# Altium schematic symbol library Resistors_CPF-0805.SchLib: 384 symbols (part 3 of 3)
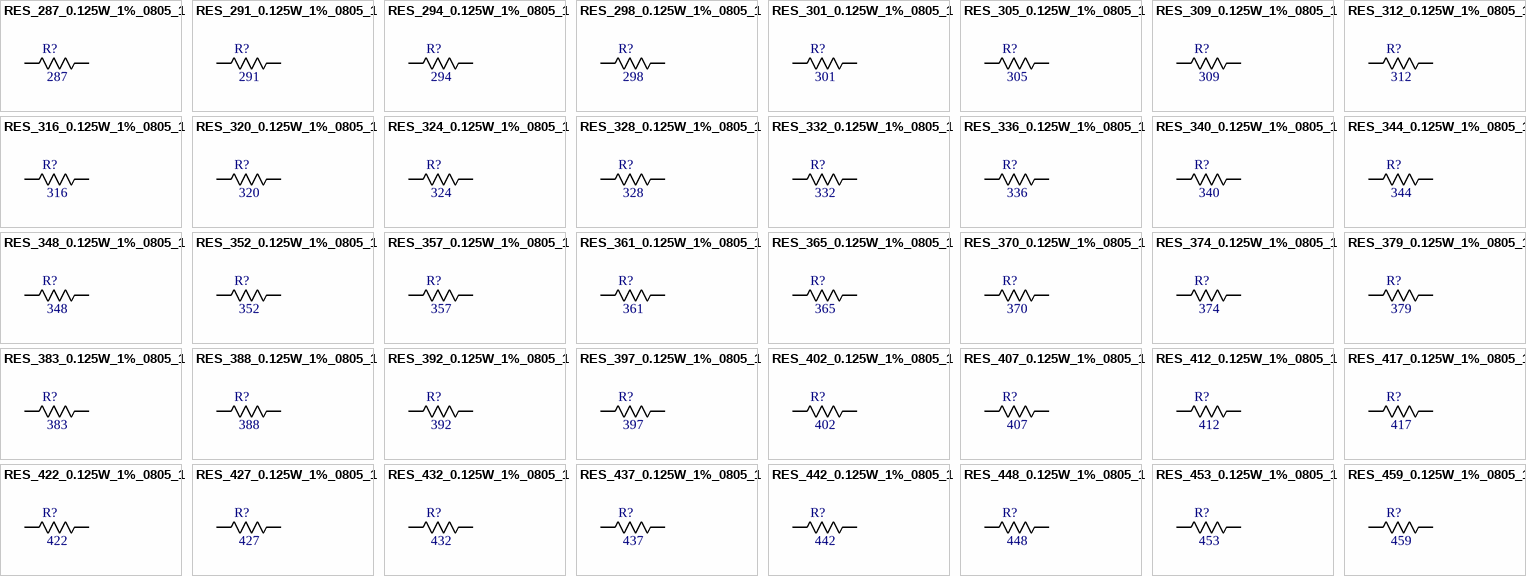
[diagram p11: symbols RES_287_0.125W_1%_0805_1 to RES_459_0.125W_1%_0805_1]

## RES_316_0.125W_1%_0805_1
designator R?, comment 316
Resistenza SMD TE Connectivity Film sottile; Manufacturer_Part_Number: CPF0805B100RE; Voltage[V]: 100; Tollerance[%]: 0.1; Serie: CPF; Codice RS: 666-2516; Vendor: TE Connectivity; Type: Resistors; Package: 0805; Power[W]: 0.1; Value[OHM ]: 100
footprint RES_0816_SUS(My_MAXI)
pins: 1, 2

## RES_320_0.125W_1%_0805_1
designator R?, comment 320
Resistenza SMD TE Connectivity Film sottile; Manufacturer_Part_Number: CPF0805B100RE; Voltage[V]: 100; Tollerance[%]: 0.1; Serie: CPF; Codice RS: 666-2516; Vendor: TE Connectivity; Type: Resistors; Package: 0805; Power[W]: 0.1; Value[OHM ]: 100
footprint RES_0816_SUS(My_MAXI)
pins: 1, 2

## RES_324_0.125W_1%_0805_1
designator R?, comment 324
Resistenza SMD TE Connectivity Film sottile; Manufacturer_Part_Number: CPF0805B100RE; Voltage[V]: 100; Tollerance[%]: 0.1; Serie: CPF; Codice RS: 666-2516; Vendor: TE Connectivity; Type: Resistors; Package: 0805; Power[W]: 0.1; Value[OHM ]: 100
footprint RES_0816_SUS(My_MAXI)
pins: 1, 2

## RES_328_0.125W_1%_0805_1
designator R?, comment 328
Resistenza SMD TE Connectivity Film sottile; Manufacturer_Part_Number: CPF0805B100RE; Voltage[V]: 100; Tollerance[%]: 0.1; Serie: CPF; Codice RS: 666-2516; Vendor: TE Connectivity; Type: Resistors; Package: 0805; Power[W]: 0.1; Value[OHM ]: 100
footprint RES_0816_SUS(My_MAXI)
pins: 1, 2

## RES_332_0.125W_1%_0805_1
designator R?, comment 332
Resistenza SMD TE Connectivity Film sottile; Manufacturer_Part_Number: CPF0805B100RE; Voltage[V]: 100; Tollerance[%]: 0.1; Serie: CPF; Codice RS: 666-2516; Vendor: TE Connectivity; Type: Resistors; Package: 0805; Power[W]: 0.1; Value[OHM ]: 100
footprint RES_0816_SUS(My_MAXI)
pins: 1, 2

## RES_336_0.125W_1%_0805_1
designator R?, comment 336
Resistenza SMD TE Connectivity Film sottile; Manufacturer_Part_Number: CPF0805B100RE; Voltage[V]: 100; Tollerance[%]: 0.1; Serie: CPF; Codice RS: 666-2516; Vendor: TE Connectivity; Type: Resistors; Package: 0805; Power[W]: 0.1; Value[OHM ]: 100
footprint RES_0816_SUS(My_MAXI)
pins: 1, 2

## RES_340_0.125W_1%_0805_1
designator R?, comment 340
Resistenza SMD TE Connectivity Film sottile; Manufacturer_Part_Number: CPF0805B100RE; Voltage[V]: 100; Tollerance[%]: 0.1; Serie: CPF; Codice RS: 666-2516; Vendor: TE Connectivity; Type: Resistors; Package: 0805; Power[W]: 0.1; Value[OHM ]: 100
footprint RES_0816_SUS(My_MAXI)
pins: 1, 2

## RES_344_0.125W_1%_0805_1
designator R?, comment 344
Resistenza SMD TE Connectivity Film sottile; Manufacturer_Part_Number: CPF0805B100RE; Voltage[V]: 100; Tollerance[%]: 0.1; Serie: CPF; Codice RS: 666-2516; Vendor: TE Connectivity; Type: Resistors; Package: 0805; Power[W]: 0.1; Value[OHM ]: 100
footprint RES_0816_SUS(My_MAXI)
pins: 1, 2

## RES_348_0.125W_1%_0805_1
designator R?, comment 348
Resistenza SMD TE Connectivity Film sottile; Manufacturer_Part_Number: CPF0805B100RE; Voltage[V]: 100; Tollerance[%]: 0.1; Serie: CPF; Codice RS: 666-2516; Vendor: TE Connectivity; Type: Resistors; Package: 0805; Power[W]: 0.1; Value[OHM ]: 100
footprint RES_0816_SUS(My_MAXI)
pins: 1, 2

## RES_352_0.125W_1%_0805_1
designator R?, comment 352
Resistenza SMD TE Connectivity Film sottile; Manufacturer_Part_Number: CPF0805B100RE; Voltage[V]: 100; Tollerance[%]: 0.1; Serie: CPF; Codice RS: 666-2516; Vendor: TE Connectivity; Type: Resistors; Package: 0805; Power[W]: 0.1; Value[OHM ]: 100
footprint RES_0816_SUS(My_MAXI)
pins: 1, 2

## RES_357_0.125W_1%_0805_1
designator R?, comment 357
Resistenza SMD TE Connectivity Film sottile; Manufacturer_Part_Number: CPF0805B100RE; Voltage[V]: 100; Tollerance[%]: 0.1; Serie: CPF; Codice RS: 666-2516; Vendor: TE Connectivity; Type: Resistors; Package: 0805; Power[W]: 0.1; Value[OHM ]: 100
footprint RES_0816_SUS(My_MAXI)
pins: 1, 2

## RES_361_0.125W_1%_0805_1
designator R?, comment 361
Resistenza SMD TE Connectivity Film sottile; Manufacturer_Part_Number: CPF0805B100RE; Voltage[V]: 100; Tollerance[%]: 0.1; Serie: CPF; Codice RS: 666-2516; Vendor: TE Connectivity; Type: Resistors; Package: 0805; Power[W]: 0.1; Value[OHM ]: 100
footprint RES_0816_SUS(My_MAXI)
pins: 1, 2

## RES_365_0.125W_1%_0805_1
designator R?, comment 365
Resistenza SMD TE Connectivity Film sottile; Manufacturer_Part_Number: CPF0805B100RE; Voltage[V]: 100; Tollerance[%]: 0.1; Serie: CPF; Codice RS: 666-2516; Vendor: TE Connectivity; Type: Resistors; Package: 0805; Power[W]: 0.1; Value[OHM ]: 100
footprint RES_0816_SUS(My_MAXI)
pins: 1, 2

## RES_370_0.125W_1%_0805_1
designator R?, comment 370
Resistenza SMD TE Connectivity Film sottile; Manufacturer_Part_Number: CPF0805B100RE; Voltage[V]: 100; Tollerance[%]: 0.1; Serie: CPF; Codice RS: 666-2516; Vendor: TE Connectivity; Type: Resistors; Package: 0805; Power[W]: 0.1; Value[OHM ]: 100
footprint RES_0816_SUS(My_MAXI)
pins: 1, 2

## RES_374_0.125W_1%_0805_1
designator R?, comment 374
Resistenza SMD TE Connectivity Film sottile; Manufacturer_Part_Number: CPF0805B100RE; Voltage[V]: 100; Tollerance[%]: 0.1; Serie: CPF; Codice RS: 666-2516; Vendor: TE Connectivity; Type: Resistors; Package: 0805; Power[W]: 0.1; Value[OHM ]: 100
footprint RES_0816_SUS(My_MAXI)
pins: 1, 2

## RES_379_0.125W_1%_0805_1
designator R?, comment 379
Resistenza SMD TE Connectivity Film sottile; Manufacturer_Part_Number: CPF0805B100RE; Voltage[V]: 100; Tollerance[%]: 0.1; Serie: CPF; Codice RS: 666-2516; Vendor: TE Connectivity; Type: Resistors; Package: 0805; Power[W]: 0.1; Value[OHM ]: 100
footprint RES_0816_SUS(My_MAXI)
pins: 1, 2

## RES_383_0.125W_1%_0805_1
designator R?, comment 383
Resistenza SMD TE Connectivity Film sottile; Manufacturer_Part_Number: CPF0805B100RE; Voltage[V]: 100; Tollerance[%]: 0.1; Serie: CPF; Codice RS: 666-2516; Vendor: TE Connectivity; Type: Resistors; Package: 0805; Power[W]: 0.1; Value[OHM ]: 100
footprint RES_0816_SUS(My_MAXI)
pins: 1, 2

## RES_388_0.125W_1%_0805_1
designator R?, comment 388
Resistenza SMD TE Connectivity Film sottile; Manufacturer_Part_Number: CPF0805B100RE; Voltage[V]: 100; Tollerance[%]: 0.1; Serie: CPF; Codice RS: 666-2516; Vendor: TE Connectivity; Type: Resistors; Package: 0805; Power[W]: 0.1; Value[OHM ]: 100
footprint RES_0816_SUS(My_MAXI)
pins: 1, 2

## RES_392_0.125W_1%_0805_1
designator R?, comment 392
Resistenza SMD TE Connectivity Film sottile; Manufacturer_Part_Number: CPF0805B100RE; Voltage[V]: 100; Tollerance[%]: 0.1; Serie: CPF; Codice RS: 666-2516; Vendor: TE Connectivity; Type: Resistors; Package: 0805; Power[W]: 0.1; Value[OHM ]: 100
footprint RES_0816_SUS(My_MAXI)
pins: 1, 2

## RES_397_0.125W_1%_0805_1
designator R?, comment 397
Resistenza SMD TE Connectivity Film sottile; Manufacturer_Part_Number: CPF0805B100RE; Voltage[V]: 100; Tollerance[%]: 0.1; Serie: CPF; Codice RS: 666-2516; Vendor: TE Connectivity; Type: Resistors; Package: 0805; Power[W]: 0.1; Value[OHM ]: 100
footprint RES_0816_SUS(My_MAXI)
pins: 1, 2

## RES_402_0.125W_1%_0805_1
designator R?, comment 402
Resistenza SMD TE Connectivity Film sottile; Manufacturer_Part_Number: CPF0805B100RE; Voltage[V]: 100; Tollerance[%]: 0.1; Serie: CPF; Codice RS: 666-2516; Vendor: TE Connectivity; Type: Resistors; Package: 0805; Power[W]: 0.1; Value[OHM ]: 100
footprint RES_0816_SUS(My_MAXI)
pins: 1, 2

## RES_407_0.125W_1%_0805_1
designator R?, comment 407
Resistenza SMD TE Connectivity Film sottile; Manufacturer_Part_Number: CPF0805B100RE; Voltage[V]: 100; Tollerance[%]: 0.1; Serie: CPF; Codice RS: 666-2516; Vendor: TE Connectivity; Type: Resistors; Package: 0805; Power[W]: 0.1; Value[OHM ]: 100
footprint RES_0816_SUS(My_MAXI)
pins: 1, 2

## RES_412_0.125W_1%_0805_1
designator R?, comment 412
Resistenza SMD TE Connectivity Film sottile; Manufacturer_Part_Number: CPF0805B100RE; Voltage[V]: 100; Tollerance[%]: 0.1; Serie: CPF; Codice RS: 666-2516; Vendor: TE Connectivity; Type: Resistors; Package: 0805; Power[W]: 0.1; Value[OHM ]: 100
footprint RES_0816_SUS(My_MAXI)
pins: 1, 2

## RES_417_0.125W_1%_0805_1
designator R?, comment 417
Resistenza SMD TE Connectivity Film sottile; Manufacturer_Part_Number: CPF0805B100RE; Voltage[V]: 100; Tollerance[%]: 0.1; Serie: CPF; Codice RS: 666-2516; Vendor: TE Connectivity; Type: Resistors; Package: 0805; Power[W]: 0.1; Value[OHM ]: 100
footprint RES_0816_SUS(My_MAXI)
pins: 1, 2

## RES_422_0.125W_1%_0805_1
designator R?, comment 422
Resistenza SMD TE Connectivity Film sottile; Manufacturer_Part_Number: CPF0805B100RE; Voltage[V]: 100; Tollerance[%]: 0.1; Serie: CPF; Codice RS: 666-2516; Vendor: TE Connectivity; Type: Resistors; Package: 0805; Power[W]: 0.1; Value[OHM ]: 100
footprint RES_0816_SUS(My_MAXI)
pins: 1, 2

## RES_427_0.125W_1%_0805_1
designator R?, comment 427
Resistenza SMD TE Connectivity Film sottile; Manufacturer_Part_Number: CPF0805B100RE; Voltage[V]: 100; Tollerance[%]: 0.1; Serie: CPF; Codice RS: 666-2516; Vendor: TE Connectivity; Type: Resistors; Package: 0805; Power[W]: 0.1; Value[OHM ]: 100
footprint RES_0816_SUS(My_MAXI)
pins: 1, 2

## RES_432_0.125W_1%_0805_1
designator R?, comment 432
Resistenza SMD TE Connectivity Film sottile; Manufacturer_Part_Number: CPF0805B100RE; Voltage[V]: 100; Tollerance[%]: 0.1; Serie: CPF; Codice RS: 666-2516; Vendor: TE Connectivity; Type: Resistors; Package: 0805; Power[W]: 0.1; Value[OHM ]: 100
footprint RES_0816_SUS(My_MAXI)
pins: 1, 2

## RES_437_0.125W_1%_0805_1
designator R?, comment 437
Resistenza SMD TE Connectivity Film sottile; Manufacturer_Part_Number: CPF0805B100RE; Voltage[V]: 100; Tollerance[%]: 0.1; Serie: CPF; Codice RS: 666-2516; Vendor: TE Connectivity; Type: Resistors; Package: 0805; Power[W]: 0.1; Value[OHM ]: 100
footprint RES_0816_SUS(My_MAXI)
pins: 1, 2

## RES_442_0.125W_1%_0805_1
designator R?, comment 442
Resistenza SMD TE Connectivity Film sottile; Manufacturer_Part_Number: CPF0805B100RE; Voltage[V]: 100; Tollerance[%]: 0.1; Serie: CPF; Codice RS: 666-2516; Vendor: TE Connectivity; Type: Resistors; Package: 0805; Power[W]: 0.1; Value[OHM ]: 100
footprint RES_0816_SUS(My_MAXI)
pins: 1, 2

## RES_448_0.125W_1%_0805_1
designator R?, comment 448
Resistenza SMD TE Connectivity Film sottile; Manufacturer_Part_Number: CPF0805B100RE; Voltage[V]: 100; Tollerance[%]: 0.1; Serie: CPF; Codice RS: 666-2516; Vendor: TE Connectivity; Type: Resistors; Package: 0805; Power[W]: 0.1; Value[OHM ]: 100
footprint RES_0816_SUS(My_MAXI)
pins: 1, 2

## RES_453_0.125W_1%_0805_1
designator R?, comment 453
Resistenza SMD TE Connectivity Film sottile; Manufacturer_Part_Number: CPF0805B100RE; Voltage[V]: 100; Tollerance[%]: 0.1; Serie: CPF; Codice RS: 666-2516; Vendor: TE Connectivity; Type: Resistors; Package: 0805; Power[W]: 0.1; Value[OHM ]: 100
footprint RES_0816_SUS(My_MAXI)
pins: 1, 2

## RES_459_0.125W_1%_0805_1
designator R?, comment 459
Resistenza SMD TE Connectivity Film sottile; Manufacturer_Part_Number: CPF0805B100RE; Voltage[V]: 100; Tollerance[%]: 0.1; Serie: CPF; Codice RS: 666-2516; Vendor: TE Connectivity; Type: Resistors; Package: 0805; Power[W]: 0.1; Value[OHM ]: 100
footprint RES_0816_SUS(My_MAXI)
pins: 1, 2

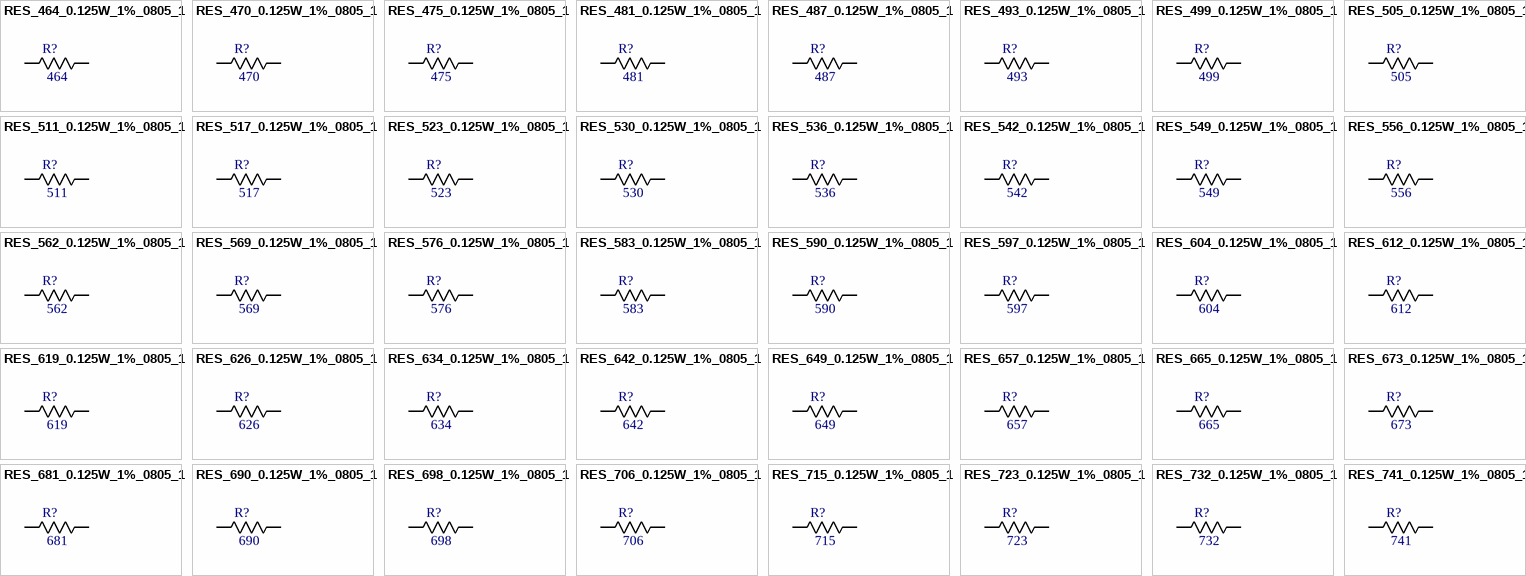
[diagram p8: symbols RES_464_0.125W_1%_0805_1 to RES_741_0.125W_1%_0805_1]

## RES_464_0.125W_1%_0805_1
designator R?, comment 464
Resistenza SMD TE Connectivity Film sottile; Manufacturer_Part_Number: CPF0805B100RE; Voltage[V]: 100; Tollerance[%]: 0.1; Serie: CPF; Codice RS: 666-2516; Vendor: TE Connectivity; Type: Resistors; Package: 0805; Power[W]: 0.1; Value[OHM ]: 100
footprint RES_0816_SUS(My_MAXI)
pins: 1, 2

## RES_470_0.125W_1%_0805_1
designator R?, comment 470
Resistenza SMD TE Connectivity Film sottile; Manufacturer_Part_Number: CPF0805B100RE; Voltage[V]: 100; Tollerance[%]: 0.1; Serie: CPF; Codice RS: 666-2516; Vendor: TE Connectivity; Type: Resistors; Package: 0805; Power[W]: 0.1; Value[OHM ]: 100
footprint RES_0816_SUS(My_MAXI)
pins: 1, 2

## RES_475_0.125W_1%_0805_1
designator R?, comment 475
Resistenza SMD TE Connectivity Film sottile; Manufacturer_Part_Number: CPF0805B100RE; Voltage[V]: 100; Tollerance[%]: 0.1; Serie: CPF; Codice RS: 666-2516; Vendor: TE Connectivity; Type: Resistors; Package: 0805; Power[W]: 0.1; Value[OHM ]: 100
footprint RES_0816_SUS(My_MAXI)
pins: 1, 2

## RES_481_0.125W_1%_0805_1
designator R?, comment 481
Resistenza SMD TE Connectivity Film sottile; Manufacturer_Part_Number: CPF0805B100RE; Voltage[V]: 100; Tollerance[%]: 0.1; Serie: CPF; Codice RS: 666-2516; Vendor: TE Connectivity; Type: Resistors; Package: 0805; Power[W]: 0.1; Value[OHM ]: 100
footprint RES_0816_SUS(My_MAXI)
pins: 1, 2

## RES_487_0.125W_1%_0805_1
designator R?, comment 487
Resistenza SMD TE Connectivity Film sottile; Manufacturer_Part_Number: CPF0805B100RE; Voltage[V]: 100; Tollerance[%]: 0.1; Serie: CPF; Codice RS: 666-2516; Vendor: TE Connectivity; Type: Resistors; Package: 0805; Power[W]: 0.1; Value[OHM ]: 100
footprint RES_0816_SUS(My_MAXI)
pins: 1, 2

## RES_493_0.125W_1%_0805_1
designator R?, comment 493
Resistenza SMD TE Connectivity Film sottile; Manufacturer_Part_Number: CPF0805B100RE; Voltage[V]: 100; Tollerance[%]: 0.1; Serie: CPF; Codice RS: 666-2516; Vendor: TE Connectivity; Type: Resistors; Package: 0805; Power[W]: 0.1; Value[OHM ]: 100
footprint RES_0816_SUS(My_MAXI)
pins: 1, 2

## RES_499_0.125W_1%_0805_1
designator R?, comment 499
Resistenza SMD TE Connectivity Film sottile; Manufacturer_Part_Number: CPF0805B100RE; Voltage[V]: 100; Tollerance[%]: 0.1; Serie: CPF; Codice RS: 666-2516; Vendor: TE Connectivity; Type: Resistors; Package: 0805; Power[W]: 0.1; Value[OHM ]: 100
footprint RES_0816_SUS(My_MAXI)
pins: 1, 2

## RES_505_0.125W_1%_0805_1
designator R?, comment 505
Resistenza SMD TE Connectivity Film sottile; Manufacturer_Part_Number: CPF0805B100RE; Voltage[V]: 100; Tollerance[%]: 0.1; Serie: CPF; Codice RS: 666-2516; Vendor: TE Connectivity; Type: Resistors; Package: 0805; Power[W]: 0.1; Value[OHM ]: 100
footprint RES_0816_SUS(My_MAXI)
pins: 1, 2

## RES_511_0.125W_1%_0805_1
designator R?, comment 511
Resistenza SMD TE Connectivity Film sottile; Manufacturer_Part_Number: CPF0805B100RE; Voltage[V]: 100; Tollerance[%]: 0.1; Serie: CPF; Codice RS: 666-2516; Vendor: TE Connectivity; Type: Resistors; Package: 0805; Power[W]: 0.1; Value[OHM ]: 100
footprint RES_0816_SUS(My_MAXI)
pins: 1, 2

## RES_517_0.125W_1%_0805_1
designator R?, comment 517
Resistenza SMD TE Connectivity Film sottile; Manufacturer_Part_Number: CPF0805B100RE; Voltage[V]: 100; Tollerance[%]: 0.1; Serie: CPF; Codice RS: 666-2516; Vendor: TE Connectivity; Type: Resistors; Package: 0805; Power[W]: 0.1; Value[OHM ]: 100
footprint RES_0816_SUS(My_MAXI)
pins: 1, 2

## RES_523_0.125W_1%_0805_1
designator R?, comment 523
Resistenza SMD TE Connectivity Film sottile; Manufacturer_Part_Number: CPF0805B100RE; Voltage[V]: 100; Tollerance[%]: 0.1; Serie: CPF; Codice RS: 666-2516; Vendor: TE Connectivity; Type: Resistors; Package: 0805; Power[W]: 0.1; Value[OHM ]: 100
footprint RES_0816_SUS(My_MAXI)
pins: 1, 2

## RES_530_0.125W_1%_0805_1
designator R?, comment 530
Resistenza SMD TE Connectivity Film sottile; Manufacturer_Part_Number: CPF0805B100RE; Voltage[V]: 100; Tollerance[%]: 0.1; Serie: CPF; Codice RS: 666-2516; Vendor: TE Connectivity; Type: Resistors; Package: 0805; Power[W]: 0.1; Value[OHM ]: 100
footprint RES_0816_SUS(My_MAXI)
pins: 1, 2

## RES_536_0.125W_1%_0805_1
designator R?, comment 536
Resistenza SMD TE Connectivity Film sottile; Manufacturer_Part_Number: CPF0805B100RE; Voltage[V]: 100; Tollerance[%]: 0.1; Serie: CPF; Codice RS: 666-2516; Vendor: TE Connectivity; Type: Resistors; Package: 0805; Power[W]: 0.1; Value[OHM ]: 100
footprint RES_0816_SUS(My_MAXI)
pins: 1, 2

## RES_542_0.125W_1%_0805_1
designator R?, comment 542
Resistenza SMD TE Connectivity Film sottile; Manufacturer_Part_Number: CPF0805B100RE; Voltage[V]: 100; Tollerance[%]: 0.1; Serie: CPF; Codice RS: 666-2516; Vendor: TE Connectivity; Type: Resistors; Package: 0805; Power[W]: 0.1; Value[OHM ]: 100
footprint RES_0816_SUS(My_MAXI)
pins: 1, 2

## RES_549_0.125W_1%_0805_1
designator R?, comment 549
Resistenza SMD TE Connectivity Film sottile; Manufacturer_Part_Number: CPF0805B100RE; Voltage[V]: 100; Tollerance[%]: 0.1; Serie: CPF; Codice RS: 666-2516; Vendor: TE Connectivity; Type: Resistors; Package: 0805; Power[W]: 0.1; Value[OHM ]: 100
footprint RES_0816_SUS(My_MAXI)
pins: 1, 2

## RES_556_0.125W_1%_0805_1
designator R?, comment 556
Resistenza SMD TE Connectivity Film sottile; Manufacturer_Part_Number: CPF0805B100RE; Voltage[V]: 100; Tollerance[%]: 0.1; Serie: CPF; Codice RS: 666-2516; Vendor: TE Connectivity; Type: Resistors; Package: 0805; Power[W]: 0.1; Value[OHM ]: 100
footprint RES_0816_SUS(My_MAXI)
pins: 1, 2

## RES_562_0.125W_1%_0805_1
designator R?, comment 562
Resistenza SMD TE Connectivity Film sottile; Manufacturer_Part_Number: CPF0805B100RE; Voltage[V]: 100; Tollerance[%]: 0.1; Serie: CPF; Codice RS: 666-2516; Vendor: TE Connectivity; Type: Resistors; Package: 0805; Power[W]: 0.1; Value[OHM ]: 100
footprint RES_0816_SUS(My_MAXI)
pins: 1, 2

## RES_569_0.125W_1%_0805_1
designator R?, comment 569
Resistenza SMD TE Connectivity Film sottile; Manufacturer_Part_Number: CPF0805B100RE; Voltage[V]: 100; Tollerance[%]: 0.1; Serie: CPF; Codice RS: 666-2516; Vendor: TE Connectivity; Type: Resistors; Package: 0805; Power[W]: 0.1; Value[OHM ]: 100
footprint RES_0816_SUS(My_MAXI)
pins: 1, 2

## RES_576_0.125W_1%_0805_1
designator R?, comment 576
Resistenza SMD TE Connectivity Film sottile; Manufacturer_Part_Number: CPF0805B100RE; Voltage[V]: 100; Tollerance[%]: 0.1; Serie: CPF; Codice RS: 666-2516; Vendor: TE Connectivity; Type: Resistors; Package: 0805; Power[W]: 0.1; Value[OHM ]: 100
footprint RES_0816_SUS(My_MAXI)
pins: 1, 2

## RES_583_0.125W_1%_0805_1
designator R?, comment 583
Resistenza SMD TE Connectivity Film sottile; Manufacturer_Part_Number: CPF0805B100RE; Voltage[V]: 100; Tollerance[%]: 0.1; Serie: CPF; Codice RS: 666-2516; Vendor: TE Connectivity; Type: Resistors; Package: 0805; Power[W]: 0.1; Value[OHM ]: 100
footprint RES_0816_SUS(My_MAXI)
pins: 1, 2

## RES_590_0.125W_1%_0805_1
designator R?, comment 590
Resistenza SMD TE Connectivity Film sottile; Manufacturer_Part_Number: CPF0805B100RE; Voltage[V]: 100; Tollerance[%]: 0.1; Serie: CPF; Codice RS: 666-2516; Vendor: TE Connectivity; Type: Resistors; Package: 0805; Power[W]: 0.1; Value[OHM ]: 100
footprint RES_0816_SUS(My_MAXI)
pins: 1, 2

## RES_597_0.125W_1%_0805_1
designator R?, comment 597
Resistenza SMD TE Connectivity Film sottile; Manufacturer_Part_Number: CPF0805B100RE; Voltage[V]: 100; Tollerance[%]: 0.1; Serie: CPF; Codice RS: 666-2516; Vendor: TE Connectivity; Type: Resistors; Package: 0805; Power[W]: 0.1; Value[OHM ]: 100
footprint RES_0816_SUS(My_MAXI)
pins: 1, 2

## RES_604_0.125W_1%_0805_1
designator R?, comment 604
Resistenza SMD TE Connectivity Film sottile; Manufacturer_Part_Number: CPF0805B100RE; Voltage[V]: 100; Tollerance[%]: 0.1; Serie: CPF; Codice RS: 666-2516; Vendor: TE Connectivity; Type: Resistors; Package: 0805; Power[W]: 0.1; Value[OHM ]: 100
footprint RES_0816_SUS(My_MAXI)
pins: 1, 2

## RES_612_0.125W_1%_0805_1
designator R?, comment 612
Resistenza SMD TE Connectivity Film sottile; Manufacturer_Part_Number: CPF0805B100RE; Voltage[V]: 100; Tollerance[%]: 0.1; Serie: CPF; Codice RS: 666-2516; Vendor: TE Connectivity; Type: Resistors; Package: 0805; Power[W]: 0.1; Value[OHM ]: 100
footprint RES_0816_SUS(My_MAXI)
pins: 1, 2

## RES_619_0.125W_1%_0805_1
designator R?, comment 619
Resistenza SMD TE Connectivity Film sottile; Manufacturer_Part_Number: CPF0805B100RE; Voltage[V]: 100; Tollerance[%]: 0.1; Serie: CPF; Codice RS: 666-2516; Vendor: TE Connectivity; Type: Resistors; Package: 0805; Power[W]: 0.1; Value[OHM ]: 100
footprint RES_0816_SUS(My_MAXI)
pins: 1, 2

## RES_626_0.125W_1%_0805_1
designator R?, comment 626
Resistenza SMD TE Connectivity Film sottile; Manufacturer_Part_Number: CPF0805B100RE; Voltage[V]: 100; Tollerance[%]: 0.1; Serie: CPF; Codice RS: 666-2516; Vendor: TE Connectivity; Type: Resistors; Package: 0805; Power[W]: 0.1; Value[OHM ]: 100
footprint RES_0816_SUS(My_MAXI)
pins: 1, 2

## RES_634_0.125W_1%_0805_1
designator R?, comment 634
Resistenza SMD TE Connectivity Film sottile; Manufacturer_Part_Number: CPF0805B100RE; Voltage[V]: 100; Tollerance[%]: 0.1; Serie: CPF; Codice RS: 666-2516; Vendor: TE Connectivity; Type: Resistors; Package: 0805; Power[W]: 0.1; Value[OHM ]: 100
footprint RES_0816_SUS(My_MAXI)
pins: 1, 2

## RES_642_0.125W_1%_0805_1
designator R?, comment 642
Resistenza SMD TE Connectivity Film sottile; Manufacturer_Part_Number: CPF0805B100RE; Voltage[V]: 100; Tollerance[%]: 0.1; Serie: CPF; Codice RS: 666-2516; Vendor: TE Connectivity; Type: Resistors; Package: 0805; Power[W]: 0.1; Value[OHM ]: 100
footprint RES_0816_SUS(My_MAXI)
pins: 1, 2

## RES_649_0.125W_1%_0805_1
designator R?, comment 649
Resistenza SMD TE Connectivity Film sottile; Manufacturer_Part_Number: CPF0805B100RE; Voltage[V]: 100; Tollerance[%]: 0.1; Serie: CPF; Codice RS: 666-2516; Vendor: TE Connectivity; Type: Resistors; Package: 0805; Power[W]: 0.1; Value[OHM ]: 100
footprint RES_0816_SUS(My_MAXI)
pins: 1, 2

## RES_657_0.125W_1%_0805_1
designator R?, comment 657
Resistenza SMD TE Connectivity Film sottile; Manufacturer_Part_Number: CPF0805B100RE; Voltage[V]: 100; Tollerance[%]: 0.1; Serie: CPF; Codice RS: 666-2516; Vendor: TE Connectivity; Type: Resistors; Package: 0805; Power[W]: 0.1; Value[OHM ]: 100
footprint RES_0816_SUS(My_MAXI)
pins: 1, 2

## RES_665_0.125W_1%_0805_1
designator R?, comment 665
Resistenza SMD TE Connectivity Film sottile; Manufacturer_Part_Number: CPF0805B100RE; Voltage[V]: 100; Tollerance[%]: 0.1; Serie: CPF; Codice RS: 666-2516; Vendor: TE Connectivity; Type: Resistors; Package: 0805; Power[W]: 0.1; Value[OHM ]: 100
footprint RES_0816_SUS(My_MAXI)
pins: 1, 2

## RES_673_0.125W_1%_0805_1
designator R?, comment 673
Resistenza SMD TE Connectivity Film sottile; Manufacturer_Part_Number: CPF0805B100RE; Voltage[V]: 100; Tollerance[%]: 0.1; Serie: CPF; Codice RS: 666-2516; Vendor: TE Connectivity; Type: Resistors; Package: 0805; Power[W]: 0.1; Value[OHM ]: 100
footprint RES_0816_SUS(My_MAXI)
pins: 1, 2

## RES_681_0.125W_1%_0805_1
designator R?, comment 681
Resistenza SMD TE Connectivity Film sottile; Manufacturer_Part_Number: CPF0805B100RE; Voltage[V]: 100; Tollerance[%]: 0.1; Serie: CPF; Codice RS: 666-2516; Vendor: TE Connectivity; Type: Resistors; Package: 0805; Power[W]: 0.1; Value[OHM ]: 100
footprint RES_0816_SUS(My_MAXI)
pins: 1, 2

## RES_690_0.125W_1%_0805_1
designator R?, comment 690
Resistenza SMD TE Connectivity Film sottile; Manufacturer_Part_Number: CPF0805B100RE; Voltage[V]: 100; Tollerance[%]: 0.1; Serie: CPF; Codice RS: 666-2516; Vendor: TE Connectivity; Type: Resistors; Package: 0805; Power[W]: 0.1; Value[OHM ]: 100
footprint RES_0816_SUS(My_MAXI)
pins: 1, 2

## RES_698_0.125W_1%_0805_1
designator R?, comment 698
Resistenza SMD TE Connectivity Film sottile; Manufacturer_Part_Number: CPF0805B100RE; Voltage[V]: 100; Tollerance[%]: 0.1; Serie: CPF; Codice RS: 666-2516; Vendor: TE Connectivity; Type: Resistors; Package: 0805; Power[W]: 0.1; Value[OHM ]: 100
footprint RES_0816_SUS(My_MAXI)
pins: 1, 2

## RES_706_0.125W_1%_0805_1
designator R?, comment 706
Resistenza SMD TE Connectivity Film sottile; Manufacturer_Part_Number: CPF0805B100RE; Voltage[V]: 100; Tollerance[%]: 0.1; Serie: CPF; Codice RS: 666-2516; Vendor: TE Connectivity; Type: Resistors; Package: 0805; Power[W]: 0.1; Value[OHM ]: 100
footprint RES_0816_SUS(My_MAXI)
pins: 1, 2

## RES_715_0.125W_1%_0805_1
designator R?, comment 715
Resistenza SMD TE Connectivity Film sottile; Manufacturer_Part_Number: CPF0805B100RE; Voltage[V]: 100; Tollerance[%]: 0.1; Serie: CPF; Codice RS: 666-2516; Vendor: TE Connectivity; Type: Resistors; Package: 0805; Power[W]: 0.1; Value[OHM ]: 100
footprint RES_0816_SUS(My_MAXI)
pins: 1, 2

## RES_723_0.125W_1%_0805_1
designator R?, comment 723
Resistenza SMD TE Connectivity Film sottile; Manufacturer_Part_Number: CPF0805B100RE; Voltage[V]: 100; Tollerance[%]: 0.1; Serie: CPF; Codice RS: 666-2516; Vendor: TE Connectivity; Type: Resistors; Package: 0805; Power[W]: 0.1; Value[OHM ]: 100
footprint RES_0816_SUS(My_MAXI)
pins: 1, 2

## RES_732_0.125W_1%_0805_1
designator R?, comment 732
Resistenza SMD TE Connectivity Film sottile; Manufacturer_Part_Number: CPF0805B100RE; Voltage[V]: 100; Tollerance[%]: 0.1; Serie: CPF; Codice RS: 666-2516; Vendor: TE Connectivity; Type: Resistors; Package: 0805; Power[W]: 0.1; Value[OHM ]: 100
footprint RES_0816_SUS(My_MAXI)
pins: 1, 2

## RES_741_0.125W_1%_0805_1
designator R?, comment 741
Resistenza SMD TE Connectivity Film sottile; Manufacturer_Part_Number: CPF0805B100RE; Voltage[V]: 100; Tollerance[%]: 0.1; Serie: CPF; Codice RS: 666-2516; Vendor: TE Connectivity; Type: Resistors; Package: 0805; Power[W]: 0.1; Value[OHM ]: 100
footprint RES_0816_SUS(My_MAXI)
pins: 1, 2

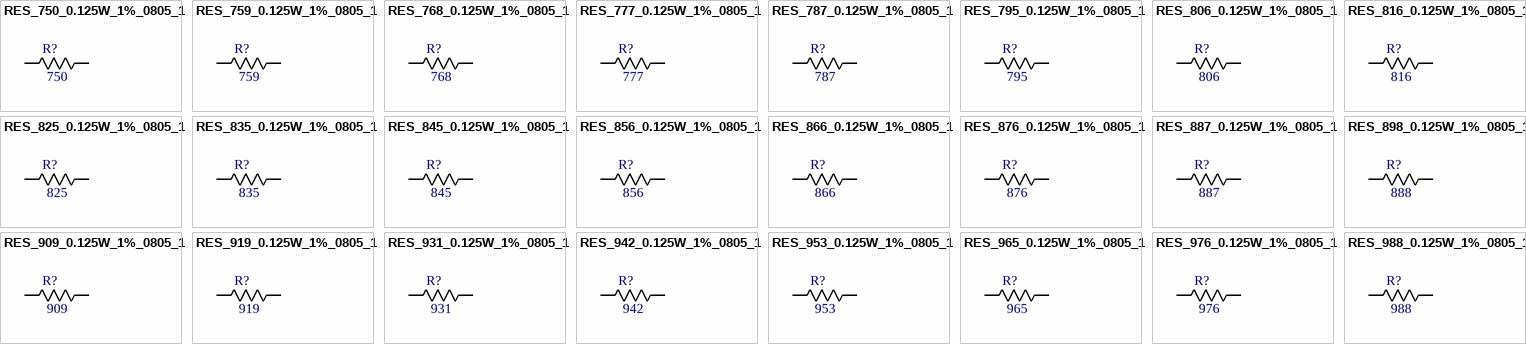
[diagram p9: symbols RES_750_0.125W_1%_0805_1 to RES_988_0.125W_1%_0805_1]

## RES_750_0.125W_1%_0805_1
designator R?, comment 750
Resistenza SMD TE Connectivity Film sottile; Manufacturer_Part_Number: CPF0805B100RE; Voltage[V]: 100; Tollerance[%]: 0.1; Serie: CPF; Codice RS: 666-2516; Vendor: TE Connectivity; Type: Resistors; Package: 0805; Power[W]: 0.1; Value[OHM ]: 100
footprint RES_0816_SUS(My_MAXI)
pins: 1, 2

## RES_759_0.125W_1%_0805_1
designator R?, comment 759
Resistenza SMD TE Connectivity Film sottile; Manufacturer_Part_Number: CPF0805B100RE; Voltage[V]: 100; Tollerance[%]: 0.1; Serie: CPF; Codice RS: 666-2516; Vendor: TE Connectivity; Type: Resistors; Package: 0805; Power[W]: 0.1; Value[OHM ]: 100
footprint RES_0816_SUS(My_MAXI)
pins: 1, 2

## RES_768_0.125W_1%_0805_1
designator R?, comment 768
Resistenza SMD TE Connectivity Film sottile; Manufacturer_Part_Number: CPF0805B100RE; Voltage[V]: 100; Tollerance[%]: 0.1; Serie: CPF; Codice RS: 666-2516; Vendor: TE Connectivity; Type: Resistors; Package: 0805; Power[W]: 0.1; Value[OHM ]: 100
footprint RES_0816_SUS(My_MAXI)
pins: 1, 2

## RES_777_0.125W_1%_0805_1
designator R?, comment 777
Resistenza SMD TE Connectivity Film sottile; Manufacturer_Part_Number: CPF0805B100RE; Voltage[V]: 100; Tollerance[%]: 0.1; Serie: CPF; Codice RS: 666-2516; Vendor: TE Connectivity; Type: Resistors; Package: 0805; Power[W]: 0.1; Value[OHM ]: 100
footprint RES_0816_SUS(My_MAXI)
pins: 1, 2

## RES_787_0.125W_1%_0805_1
designator R?, comment 787
Resistenza SMD TE Connectivity Film sottile; Manufacturer_Part_Number: CPF0805B100RE; Voltage[V]: 100; Tollerance[%]: 0.1; Serie: CPF; Codice RS: 666-2516; Vendor: TE Connectivity; Type: Resistors; Package: 0805; Power[W]: 0.1; Value[OHM ]: 100
footprint RES_0816_SUS(My_MAXI)
pins: 1, 2

## RES_795_0.125W_1%_0805_1
designator R?, comment 795
Resistenza SMD TE Connectivity Film sottile; Manufacturer_Part_Number: CPF0805B100RE; Voltage[V]: 100; Tollerance[%]: 0.1; Serie: CPF; Codice RS: 666-2516; Vendor: TE Connectivity; Type: Resistors; Package: 0805; Power[W]: 0.1; Value[OHM ]: 100
footprint RES_0816_SUS(My_MAXI)
pins: 1, 2

## RES_806_0.125W_1%_0805_1
designator R?, comment 806
Resistenza SMD TE Connectivity Film sottile; Manufacturer_Part_Number: CPF0805B100RE; Voltage[V]: 100; Tollerance[%]: 0.1; Serie: CPF; Codice RS: 666-2516; Vendor: TE Connectivity; Type: Resistors; Package: 0805; Power[W]: 0.1; Value[OHM ]: 100
footprint RES_0816_SUS(My_MAXI)
pins: 1, 2

## RES_816_0.125W_1%_0805_1
designator R?, comment 816
Resistenza SMD TE Connectivity Film sottile; Manufacturer_Part_Number: CPF0805B100RE; Voltage[V]: 100; Tollerance[%]: 0.1; Serie: CPF; Codice RS: 666-2516; Vendor: TE Connectivity; Type: Resistors; Package: 0805; Power[W]: 0.1; Value[OHM ]: 100
footprint RES_0816_SUS(My_MAXI)
pins: 1, 2

## RES_825_0.125W_1%_0805_1
designator R?, comment 825
Resistenza SMD TE Connectivity Film sottile; Manufacturer_Part_Number: CPF0805B100RE; Voltage[V]: 100; Tollerance[%]: 0.1; Serie: CPF; Codice RS: 666-2516; Vendor: TE Connectivity; Type: Resistors; Package: 0805; Power[W]: 0.1; Value[OHM ]: 100
footprint RES_0816_SUS(My_MAXI)
pins: 1, 2

## RES_835_0.125W_1%_0805_1
designator R?, comment 835
Resistenza SMD TE Connectivity Film sottile; Manufacturer_Part_Number: CPF0805B100RE; Voltage[V]: 100; Tollerance[%]: 0.1; Serie: CPF; Codice RS: 666-2516; Vendor: TE Connectivity; Type: Resistors; Package: 0805; Power[W]: 0.1; Value[OHM ]: 100
footprint RES_0816_SUS(My_MAXI)
pins: 1, 2

## RES_845_0.125W_1%_0805_1
designator R?, comment 845
Resistenza SMD TE Connectivity Film sottile; Manufacturer_Part_Number: CPF0805B100RE; Voltage[V]: 100; Tollerance[%]: 0.1; Serie: CPF; Codice RS: 666-2516; Vendor: TE Connectivity; Type: Resistors; Package: 0805; Power[W]: 0.1; Value[OHM ]: 100
footprint RES_0816_SUS(My_MAXI)
pins: 1, 2

## RES_856_0.125W_1%_0805_1
designator R?, comment 856
Resistenza SMD TE Connectivity Film sottile; Manufacturer_Part_Number: CPF0805B100RE; Voltage[V]: 100; Tollerance[%]: 0.1; Serie: CPF; Codice RS: 666-2516; Vendor: TE Connectivity; Type: Resistors; Package: 0805; Power[W]: 0.1; Value[OHM ]: 100
footprint RES_0816_SUS(My_MAXI)
pins: 1, 2

## RES_866_0.125W_1%_0805_1
designator R?, comment 866
Resistenza SMD TE Connectivity Film sottile; Manufacturer_Part_Number: CPF0805B100RE; Voltage[V]: 100; Tollerance[%]: 0.1; Serie: CPF; Codice RS: 666-2516; Vendor: TE Connectivity; Type: Resistors; Package: 0805; Power[W]: 0.1; Value[OHM ]: 100
footprint RES_0816_SUS(My_MAXI)
pins: 1, 2

## RES_876_0.125W_1%_0805_1
designator R?, comment 876
Resistenza SMD TE Connectivity Film sottile; Manufacturer_Part_Number: CPF0805B100RE; Voltage[V]: 100; Tollerance[%]: 0.1; Serie: CPF; Codice RS: 666-2516; Vendor: TE Connectivity; Type: Resistors; Package: 0805; Power[W]: 0.1; Value[OHM ]: 100
footprint RES_0816_SUS(My_MAXI)
pins: 1, 2

## RES_887_0.125W_1%_0805_1
designator R?, comment 887
Resistenza SMD TE Connectivity Film sottile; Manufacturer_Part_Number: CPF0805B100RE; Voltage[V]: 100; Tollerance[%]: 0.1; Serie: CPF; Codice RS: 666-2516; Vendor: TE Connectivity; Type: Resistors; Package: 0805; Power[W]: 0.1; Value[OHM ]: 100
footprint RES_0816_SUS(My_MAXI)
pins: 1, 2

## RES_898_0.125W_1%_0805_1
designator R?, comment 888
Resistenza SMD TE Connectivity Film sottile; Manufacturer_Part_Number: CPF0805B100RE; Voltage[V]: 100; Tollerance[%]: 0.1; Serie: CPF; Codice RS: 666-2516; Vendor: TE Connectivity; Type: Resistors; Package: 0805; Power[W]: 0.1; Value[OHM ]: 100
footprint RES_0816_SUS(My_MAXI)
pins: 1, 2

## RES_909_0.125W_1%_0805_1
designator R?, comment 909
Resistenza SMD TE Connectivity Film sottile; Manufacturer_Part_Number: CPF0805B100RE; Voltage[V]: 100; Tollerance[%]: 0.1; Serie: CPF; Codice RS: 666-2516; Vendor: TE Connectivity; Type: Resistors; Package: 0805; Power[W]: 0.1; Value[OHM ]: 100
footprint RES_0816_SUS(My_MAXI)
pins: 1, 2

## RES_919_0.125W_1%_0805_1
designator R?, comment 919
Resistenza SMD TE Connectivity Film sottile; Manufacturer_Part_Number: CPF0805B100RE; Voltage[V]: 100; Tollerance[%]: 0.1; Serie: CPF; Codice RS: 666-2516; Vendor: TE Connectivity; Type: Resistors; Package: 0805; Power[W]: 0.1; Value[OHM ]: 100
footprint RES_0816_SUS(My_MAXI)
pins: 1, 2

## RES_931_0.125W_1%_0805_1
designator R?, comment 931
Resistenza SMD TE Connectivity Film sottile; Manufacturer_Part_Number: CPF0805B100RE; Voltage[V]: 100; Tollerance[%]: 0.1; Serie: CPF; Codice RS: 666-2516; Vendor: TE Connectivity; Type: Resistors; Package: 0805; Power[W]: 0.1; Value[OHM ]: 100
footprint RES_0816_SUS(My_MAXI)
pins: 1, 2

## RES_942_0.125W_1%_0805_1
designator R?, comment 942
Resistenza SMD TE Connectivity Film sottile; Manufacturer_Part_Number: CPF0805B100RE; Voltage[V]: 100; Tollerance[%]: 0.1; Serie: CPF; Codice RS: 666-2516; Vendor: TE Connectivity; Type: Resistors; Package: 0805; Power[W]: 0.1; Value[OHM ]: 100
footprint RES_0816_SUS(My_MAXI)
pins: 1, 2

## RES_953_0.125W_1%_0805_1
designator R?, comment 953
Resistenza SMD TE Connectivity Film sottile; Manufacturer_Part_Number: CPF0805B100RE; Voltage[V]: 100; Tollerance[%]: 0.1; Serie: CPF; Codice RS: 666-2516; Vendor: TE Connectivity; Type: Resistors; Package: 0805; Power[W]: 0.1; Value[OHM ]: 100
footprint RES_0816_SUS(My_MAXI)
pins: 1, 2

## RES_965_0.125W_1%_0805_1
designator R?, comment 965
Resistenza SMD TE Connectivity Film sottile; Manufacturer_Part_Number: CPF0805B100RE; Voltage[V]: 100; Tollerance[%]: 0.1; Serie: CPF; Codice RS: 666-2516; Vendor: TE Connectivity; Type: Resistors; Package: 0805; Power[W]: 0.1; Value[OHM ]: 100
footprint RES_0816_SUS(My_MAXI)
pins: 1, 2

## RES_976_0.125W_1%_0805_1
designator R?, comment 976
Resistenza SMD TE Connectivity Film sottile; Manufacturer_Part_Number: CPF0805B100RE; Voltage[V]: 100; Tollerance[%]: 0.1; Serie: CPF; Codice RS: 666-2516; Vendor: TE Connectivity; Type: Resistors; Package: 0805; Power[W]: 0.1; Value[OHM ]: 100
footprint RES_0816_SUS(My_MAXI)
pins: 1, 2

## RES_988_0.125W_1%_0805_1
designator R?, comment 988
Resistenza SMD TE Connectivity Film sottile; Manufacturer_Part_Number: CPF0805B100RE; Voltage[V]: 100; Tollerance[%]: 0.1; Serie: CPF; Codice RS: 666-2516; Vendor: TE Connectivity; Type: Resistors; Package: 0805; Power[W]: 0.1; Value[OHM ]: 100
footprint RES_0816_SUS(My_MAXI)
pins: 1, 2